# Altium footprint library con-coax.PCBLIB: 28 footprints (part 1 of 2)
Each footprint in its own frame and in the unit in brackets; x right, y up, seen from the top. Pads: shape width x height; smd on the part's side, far side on the other; paste and mask are expansions set on the pad; w line width, h text height; cw(c..) or ccw(c..) is an arc to the next point about the centre after c.
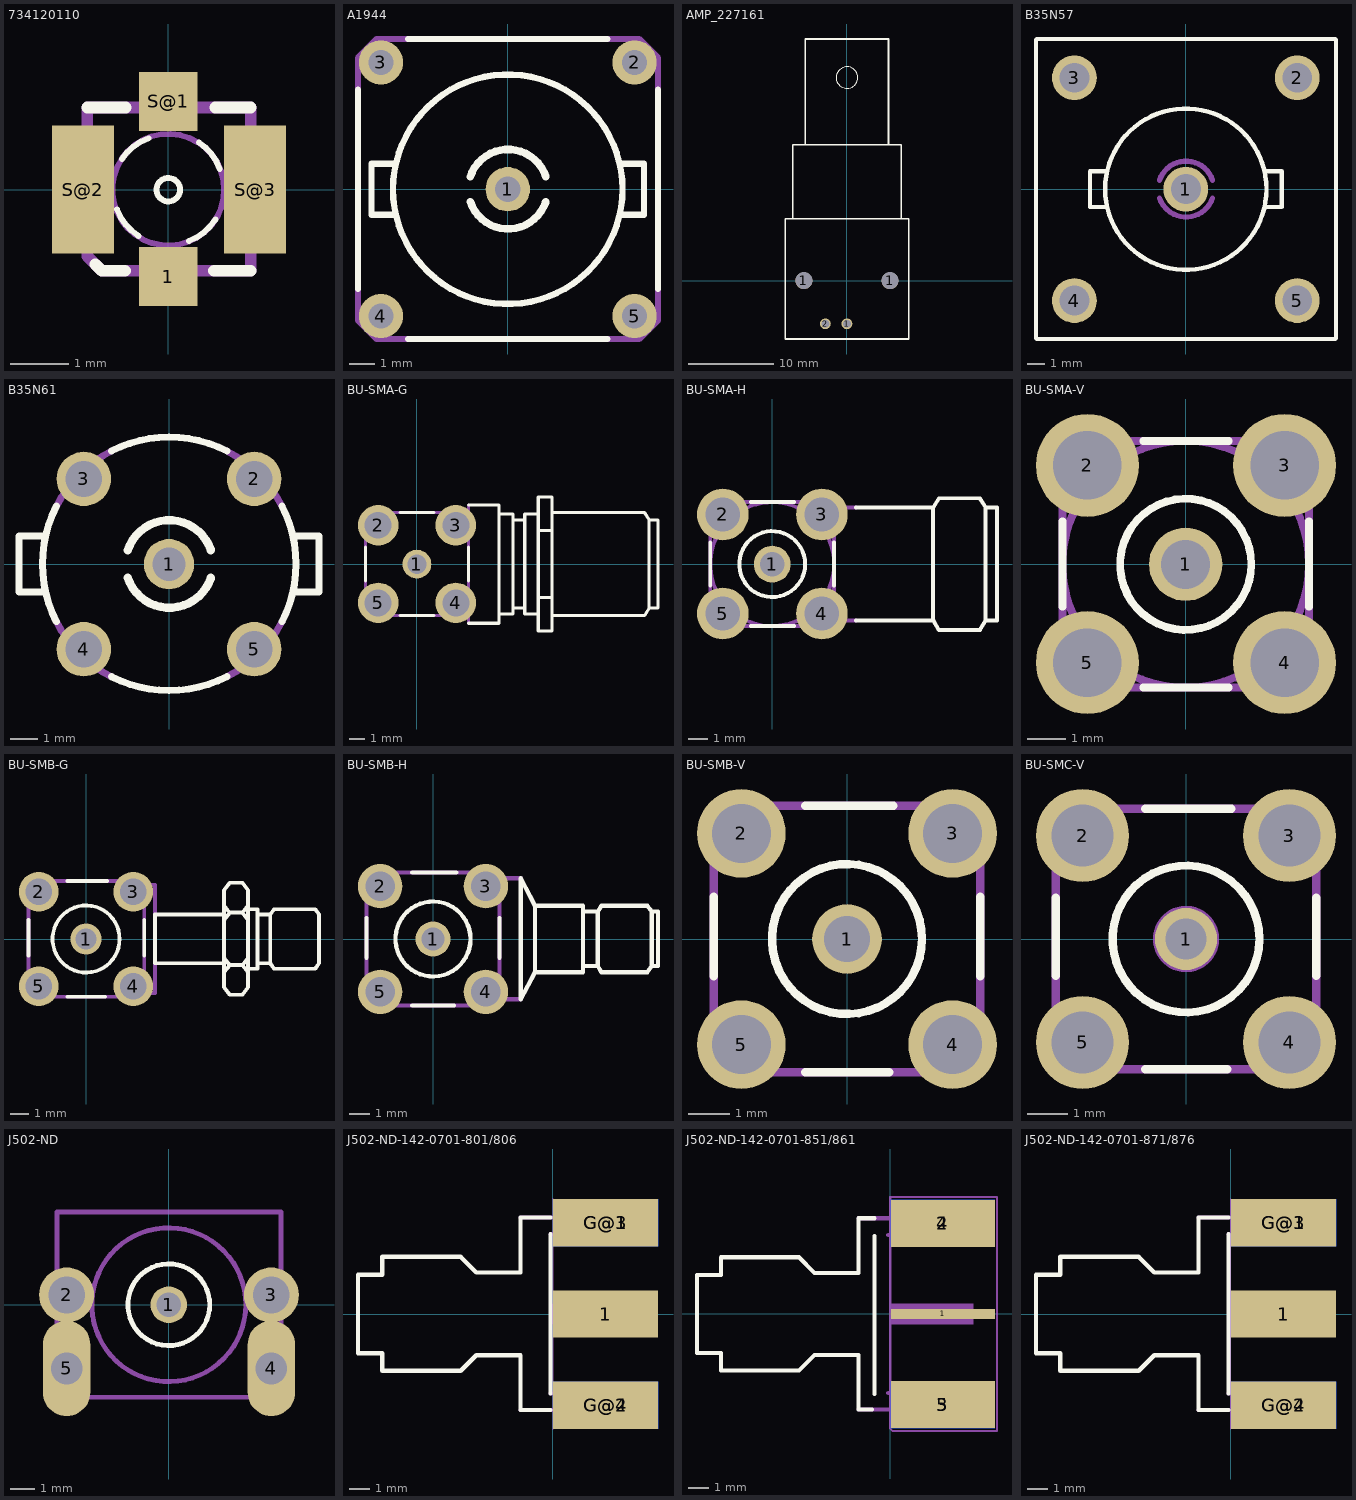
[diagram p0: the footprints below, top view; thin cyan lines are the x and y axes]

## 734120110 [mil]
pads (4):
  rect 40x40 smd: 1(0,-59.06) S@1(0,60)
  rect 42x87 smd: S@2(-58.07,0) S@3(59,0)
Top Overlay:
  circle w4: c0,0 r8
  lines w4: -34.94,-13.29 ccw(c-1.04,-0.89) -20.18,-31.5 ; -31.5,21 cw(c-2,1.48) -13.29,35 ; 14,-34.94 ccw(c1.5,-1.35) 32,-20.18 ; 21,32 cw(c1.79,2.61) 35,14
  lines w8: -55.12,56 -29.04,56 ; -49.7,-50.69 -45.28,-55.12 -29.53,-55.12 ; 31,-55.12 56,-55.12 ; 32,56 56,56
Mechanical 2:
  text ">NAME" at -68.9,-137.8 h77.5
Mechanical 4:
  text ">VALUE" at -68.9,89 h77.5
Mechanical 16:
  circle w4: c0,0 r38
  rectangle: -11.81,-70.87 12,-59.06
  rectangle: -11.81,60 12,71
  rectangle: 54,-35.43 71,36
  rectangle: -70.87,-35.43 -53.15,36
  lines w8: -55.12,-45.28 -55.12,56 56,56 56,-55.12 -45.28,-55.12 -55.12,-45.28

## A1944 [mil]
pads (5):
  round 70 hole 40: 1(0,0) 2(200,200) 3(-200,200) 4(-200,-200) 5(200,-200)
Top Overlay:
  circle w10: c0,0 r181
  lines w10: -236.22,-156.69 -236.22,157 ; -180,-40 -215,-40 -215,40 -180,40 ; -156.69,-236.22 157,-236.22 ; -156.69,237 157,237 ; 180,-40 215,-40 215,40 180,40 ; 237,-156.69 237,157
  lines w12: -59.06,-19.69 ccw(c0.47,0.16) 60,-19.69 ; -59.06,20 cw(c0.47,0.16) 60,20
Mechanical 2:
  text ">NAME" at -100,250 h77.5
Mechanical 4:
  text ">VALUE" at -100,-300 h77.5
Mechanical 16:
  lines w10: -236.22,-150 -236.22,-206.69 -206.69,-236.22 -150,-236.22 ; -236.22,150 -236.22,207 -206.69,237 -150,237 ; 150,-236.22 207,-236.22 237,-206.69 237,-150 ; 150,237 207,237 237,207 237,150

## AMP_227161 [mil]
pads (4):
  round 79 hole 79: 1(-200,0) 1(200,0)
  round 50 hole 36: 1(0,-200) 2(-100,-200)
Top Overlay:
  circle w0: c0,943 r50
  lines w8: -251.97,291 -251.97,631 252,631 252,290 ; -192.91,636 -192.91,1122 193,1122 193,635 ; -286.42,-270.67 287,-270.67 287,287 -286.42,287 -286.42,-270.67
Mechanical 2:
  text ">NAME" at -275,-350 h77.5
Mechanical 4:
  text ">VALUE" at -25,-350 h77.5

## B35N57 [mil]
pads (5):
  round 100.5 hole 67: 1(0,0) 2(250,250) 3(-250,250) 4(-250,-250) 5(250,-250)
Top Overlay:
  circle w10: c0,0 r181
  lines w10: -336.22,-334.25 -336.22,335 ; -334.25,-336.22 335,-336.22 ; -334.25,337 335,337 ; -180,-40 -215,-40 -215,40 -180,40 ; 180,-40 215,-40 215,40 180,40 ; 337,-334.25 337,335
Mechanical 2:
  text ">NAME" at -300,350 h77.5
Mechanical 4:
  text ">VALUE" at -300,-400 h77.5
Mechanical 16:
  lines w12: -59.06,-19.69 ccw(c0.47,0.16) 60,-19.69 ; -59.06,20 cw(c0.47,0.16) 60,20
  text "B35 N57" at -100,-250 h37.2

## B35N61 [mil]
pads (5):
  round 72 hole 48: 1(0,0)
  round 78 hole 52: 2(122,122) 3(-122,122) 4(-122,-122) 5(122,-122)
Top Overlay:
  lines w10: -180,-40 -215,-40 -215,40 -180,40 ; -161.42,-82.68 cw(c0.32,0.16) -161.42,83 ; -82.68,-161.42 ccw(c0.16,0.32) 83,-161.42 ; -82.68,162 cw(c0.16,0.27) 83,162 ; 162,-82.68 ccw(c0.27,0.16) 162,83 ; 180,-40 215,-40 215,40 180,40
  lines w12: -59.06,-19.69 ccw(c0.47,0.16) 60,-19.69 ; -59.06,20 cw(c0.47,0.16) 60,20
Mechanical 2:
  text ">NAME" at -150,200 h77.5
Mechanical 4:
  text ">VALUE" at -150,-250 h77.5
Mechanical 16:
  lines w10: -161.42,-82.68 ccw(c0,0) -82.68,-161.42 ; -161.42,83 cw(c0.4,0.45) -82.68,162 ; 83,-161.42 ccw(c0.45,0.4) 162,-82.68 ; 83,162 cw(c0.05,0.05) 162,83
  text "B35 N61" at -50,-100 h37.2

## BU-SMA-G [mil]
pads (5):
  round 75 hole 50: 1(0,0)
  round 105 hole 70: 2(-100.39,101) 3(101,101) 4(101,-100.39) 5(-100.39,-100.39)
Top Overlay:
  lines w8: -133.86,-43.31 -133.86,44 ; -43.31,-133.86 44,-133.86 ; -43.31,134 44,134 ; 134,-153.54 213,-153.54 213,-129.92 ; 134,-43.31 134,44 ; 134,154 213,154 213,130 ; 213,-129.92 249,-129.92 249,-114.17 ; 213,-129.92 213,130 ; 213,130 249,130 249,115 ; 249,-114.17 280,-114.17 ; 249,-114.17 249,115 ; 249,115 280,115 ; 280,-114.17 280,-129.92 315,-129.92 ; 280,-114.17 280,115 ; 280,115 280,130 315,130 ; 315,-129.92 315,-86.61 ; 315,-129.92 315,-173.23 351,-173.23 351,-133.86 ; 315,-86.61 315,87 ; 315,-86.61 351,-86.61 ; 315,87 351,87 ; 315,87 315,130 ; 315,130 315,174 351,174 351,134 ; 351,-133.86 591,-133.86 603,-114.17 ; 351,-133.86 351,-86.61 ; 351,-86.61 351,87 ; 351,87 351,134 ; 351,134 591,134 603,115 ; 603,-114.17 626,-114.17 626,115 603,115 ; 603,-114.17 603,115
Mechanical 2:
  text ">NAME" at -100,175 h77.5
Mechanical 4:
  text ">VALUE" at -125,-225 h77.5
Mechanical 16:
  lines w8: 134,-153.54 134,-133.86 ; 134,154 134,134 ; 134,-133.86 134,134 ; 134,-133.86 -133.86,-133.86 -133.86,134 134,134

## BU-SMA-H [mil]
pads (5):
  round 75 hole 50: 1(0,0)
  round 105 hole 70: 2(-100.39,101) 3(101,101) 4(101,-100.39) 5(-100.39,-100.39)
Top Overlay:
  circle w8: c0,0 r67
  lines w8: -125.98,-43.31 -125.98,44 ; -43.31,-125.98 44,-125.98 ; -43.31,126 44,126 ; 126,-43.31 126,44 ; 170,-114.17 327,-114.17 ; 170,115 327,115 ; 327,-114.17 339,-133.86 422,-133.86 434,-114.17 ; 327,-114.17 327,115 ; 327,115 339,134 422,134 434,115 ; 434,-114.17 457,-114.17 457,115 434,115 ; 434,-114.17 434,115
Mechanical 2:
  text ">NAME" at -100,175 h77.5
Mechanical 4:
  text ">VALUE" at -125,-225 h77.5
Mechanical 16:
  circle w8: c0,0 r126
  lines w8: 170,-114.17 126,-114.17 ; 170,115 126,115 ; 126,-114.17 126,115 ; 126,-114.17 126,-125.98 -125.98,-125.98 -125.98,126 126,126 126,115

## BU-SMA-V [mil]
pads (5):
  round 75 hole 50: 1(0,0)
  round 105 hole 70: 2(-100.39,101) 3(101,101) 4(101,-100.39) 5(-100.39,-100.39)
Top Overlay:
  circle w8: c0,0 r67
  lines w8: -125.98,-43.31 -125.98,44 ; -43.31,-125.98 44,-125.98 ; -43.31,126 44,126 ; 126,-43.31 126,44
Mechanical 2:
  text ">NAME" at -100,175 h77.5
Mechanical 4:
  text ">VALUE" at -125,-225 h77.5
Mechanical 16:
  circle w8: c0,0 r126
  lines w8: -125.98,-125.98 126,-125.98 126,126 -125.98,126 -125.98,-125.98

## BU-SMB-G [mil]
pads (5):
  round 66 hole 44: 1(0,0)
  round 84 hole 56: 2(-100,100) 3(100,100) 4(100,-100) 5(-100,-100)
Top Overlay:
  circle w8: c0,0 r71
  lines w8: -122.05,-35.43 -122.05,40 ; -39.37,-122.05 40,-122.05 ; -39.37,123 44,123 ; 123,-35.43 123,40 ; 292,-70.87 292,-102.36 304,-118.11 331,-118.11 343,-102.36 343,-70.87 ; 292,-70.87 292,-51.18 ; 292,-70.87 304,-55.12 ; 292,-51.18 292,-39.37 ; 292,-51.18 146,-51.18 146,52 292,52 ; 292,-39.37 292,40 ; 292,-39.37 304,-55.12 ; 292,40 292,52 ; 292,40 304,56 ; 292,52 292,71 ; 292,71 292,103 304,119 331,119 343,103 343,71 ; 292,71 304,56 ; 304,-55.12 331,-55.12 ; 304,56 331,56 ; 331,-55.12 343,-70.87 ; 331,-55.12 343,-39.37 ; 331,56 343,71 ; 331,56 343,40 ; 343,-70.87 343,-62.99 ; 343,-62.99 343,-39.37 ; 343,-62.99 363,-62.99 363,-51.18 ; 343,-39.37 343,40 ; 343,40 343,63 ; 343,63 343,71 ; 343,63 363,63 363,52 ; 363,-51.18 363,52 ; 363,-51.18 390,-51.18 ; 363,52 390,52 ; 390,-51.18 390,52 ; 390,-51.18 398,-62.99 485,-62.99 493,-51.18 493,52 485,63 398,63 390,52
Mechanical 2:
  text ">NAME" at -100,175 h77.5
Mechanical 4:
  text ">VALUE" at -125,-225 h77.5
Mechanical 16:
  circle w40: c0,0 r12
  lines w8: 126,-114.17 146,-114.17 146,-51.18 ; 126,115 146,115 146,52 ; -122.05,-122.05 123,-122.05 123,123 -122.05,123 -122.05,-122.05

## BU-SMB-H [mil]
pads (5):
  round 66 hole 44: 1(0,0)
  round 84 hole 56: 2(-100,100) 3(100,100) 4(100,-100) 5(-100,-100)
Top Overlay:
  circle w8: c0,0 r71
  lines w8: -125.98,-35.43 -125.98,40 ; -39.37,-125.98 40,-125.98 ; -39.37,126 44,126 ; 126,-35.43 126,40 ; 193,-62.99 193,63 ; 193,-62.99 166,-114.17 166,115 193,63 ; 193,-62.99 284,-62.99 284,-51.18 ; 193,63 284,63 284,52 ; 284,-51.18 284,52 ; 284,-51.18 312,-51.18 ; 284,52 312,52 ; 312,-51.18 312,52 ; 312,-51.18 319,-62.99 406,-62.99 414,-51.18 ; 312,52 319,63 406,63 414,52 ; 414,-51.18 426,-51.18 426,52 414,52 ; 414,-51.18 414,52
Mechanical 2:
  text ">NAME" at -100,175 h77.5
Mechanical 4:
  text ">VALUE" at -125,-225 h77.5
Mechanical 16:
  circle w40: c0,0 r12
  lines w8: 130,-114.17 166,-114.17 ; 130,115 166,115 ; -125.98,-125.98 126,-125.98 126,126 -125.98,126 -125.98,-125.98

## BU-SMB-V [mil]
pads (5):
  round 66 hole 44: 1(0,0)
  round 84 hole 56: 2(-100,100) 3(100,100) 4(100,-100) 5(-100,-100)
Top Overlay:
  circle w8: c0,0 r71
  lines w8: -125.98,-35.43 -125.98,40 ; -39.37,-125.98 40,-125.98 ; -39.37,126 44,126 ; 126,-35.43 126,40
Mechanical 2:
  text ">NAME" at -100,175 h77.5
Mechanical 4:
  text ">VALUE" at -125,-225 h77.5
Mechanical 16:
  circle w40: c0,0 r12
  lines w8: -125.98,-125.98 126,-125.98 126,126 -125.98,126 -125.98,-125.98

## BU-SMC-V [mil]
pads (5):
  round 60 hole 40: 1(0,0)
  round 90 hole 60: 2(-100,100) 3(100,100) 4(100,-100) 5(-100,-100)
Top Overlay:
  circle w8: c0,0 r71
  lines w8: -125.98,-35.43 -125.98,40 ; -39.37,-125.98 40,-125.98 ; -39.37,126 44,126 ; 126,-35.43 126,40
Mechanical 2:
  text ">NAME" at -100,175 h77.5
Mechanical 4:
  text ">VALUE" at -125,-225 h77.5
Mechanical 16:
  circle w40: c0,0 r12
  lines w8: -125.98,-125.98 126,-125.98 126,126 -125.98,126 -125.98,-125.98

## J502-ND [mil]
pads (5):
  round 60 hole 40: 1(0,0)
  round 90 hole 60: 2(-167.32,16) 3(168,16)
  oval 78x156 hole 52: 4(168,-104.33) 5(-167.32,-104.33)
Top Overlay:
  circle w8: c0,0 r67
Mechanical 2:
  text ">NAME" at -100,175 h77.5
Mechanical 4:
  text ">VALUE" at -125,-225 h77.5
Mechanical 11:
  lines w0: -192.91,-137.8 -192.91,-70.87 cw(c-167.32,-70.87) -141.73,-70.87 -141.73,-137.8 cw(c-167.32,-137.8) -192.91,-137.8 ; 142,-137.8 142,-70.87 cw(c167.5,-70.87) 193,-70.87 193,-137.8 cw(c167.5,-137.8) 142,-137.8
Mechanical 16:
  circle w8: c0,0 r126
  lines w8: -183.07,-151.57 184,-151.57 184,152 -183.07,152 -183.07,-151.57

## J502-ND-142-0701-801/806 [mil]
pads (5):
  rect 200x90 smd: 1(101,0) G@1(101,174) G@2(101,-174)
  rect 200x90 smd far side: G@3(101,174) G@4(101,-174)
Top Overlay:
  lines w8: -3.94,-183.07 -61.02,-183.07 -61.02,-78.74 -145.67,-78.74 -175.2,-108.27 -324.8,-108.27 -324.8,-74.8 -371.06,-74.8 -371.06,75 -324.8,75 -324.8,109 -175.2,109 -145.67,79 -61.02,79 -61.02,184 -3.94,184 ; -3.94,-151.57 -3.94,152
Mechanical 1:
  lines w0: 0,-220 0,220
Mechanical 2:
  text ">NAME" at 25,250 h108.5
Mechanical 4:
  text ">VALUE" at 50,-350 h108.5
Mechanical 16:
  rectangle: -0.98,-19.68 160,20
  lines w8: -61.02,-183.07 184,-183.07 184,-151.57 -3.94,-151.57 ; -61.02,184 184,184 184,152 -3.94,152

## J502-ND-142-0701-851/861 [mil]
pads (5):
  rect 200x19.68 smd: 1(101,0)
  rect 200x90 smd: 2(101,174) 3(101,-174)
  rect 200x90 smd far side: 4(101,174) 5(101,-174)
Top Overlay:
  lines w8: -35,-183.07 -61.02,-183.07 -61.02,-78.74 -145.67,-78.74 -175.2,-108.27 -324.8,-108.27 -324.8,-74.8 -371.06,-74.8 -371.06,75 -324.8,75 -324.8,109 -175.2,109 -145.67,79 -61.02,79 -61.02,184 -30,184 ; -30,-153.57 -30,150
Mechanical 1:
  lines w0: 0,-220 0,220
Mechanical 2:
Mechanical 4:
Mechanical 16:
  rectangle: -0.98,-19.68 160,20
  lines w8: -61.02,-183.07 184,-183.07 184,-151.57 -3.94,-151.57 ; -61.02,184 184,184 184,152 -3.94,152
Mechanical 29:
  lines w3.94: 0,-220 0,225 205,225 205,-225 5,-225 0,-220
  text ".Designator" at 115,-145 h60
3D body "dr-3d-CSS-JOHN-142-0701-851.stp": height 156, standoff -156, extent -375,-187.5 187,187.5

## J502-ND-142-0701-871/876 [mil]
pads (5):
  rect 200x90 smd: 1(101,0) G@1(101,174) G@2(101,-174)
  rect 200x90 smd far side: G@3(101,174) G@4(101,-174)
Top Overlay:
  lines w8: -3.94,-183.07 -61.02,-183.07 -61.02,-78.74 -145.67,-78.74 -175.2,-108.27 -324.8,-108.27 -324.8,-74.8 -371.06,-74.8 -371.06,75 -324.8,75 -324.8,109 -175.2,109 -145.67,79 -61.02,79 -61.02,184 -3.94,184 ; -3.94,-151.57 -3.94,152
Mechanical 1:
  lines w0: 0,-220 0,220
Mechanical 2:
  text ">NAME" at 25,250 h108.5
Mechanical 4:
  text ">VALUE" at 50,-350 h108.5
Mechanical 16:
  rectangle: -0.98,-19.68 160,20
  lines w8: -61.02,-183.07 184,-183.07 184,-151.57 -3.94,-151.57 ; -61.02,184 184,184 184,152 -3.94,152